# EAGLE library part PCA9634 (library LED)
NXP PCA9634 8-bit LED Controller
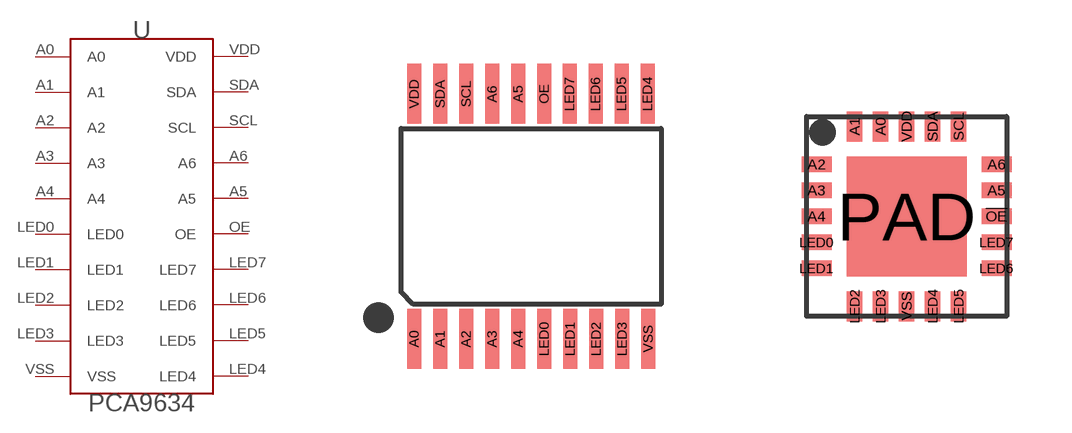
[diagram p3: symbol with the pads of PCA9634PW-TSSOP20; footprints PCA9634PW-TSSOP20, PCA9634PW-HVQFN20]

Designator prefix -

## PCA9634-TSSOP20  [PCA9634PW-TSSOP20]
A0  A0
A1  A1
A2  A2
A3  A3
A4  A4
A5  A5
A6  A6
LED0  LED0
LED1  LED1
LED2  LED2
LED3  LED3
LED4  LED4
LED5  LED5
LED6  LED6
LED7  LED7
OE  OE
SCL  SCL
SDA  SDA
VDD  VDD
VSS  VSS

## PCA9634-HVQFN20  [PCA9634PW-HVQFN20]
!OE  OE
A0  A0
A1  A1
A2  A2
A3  A3
A4  A4
A5  A5
A6  A6
LED0  LED0
LED1  LED1
LED2  LED2
LED3  LED3
LED4  LED4
LED5  LED5
LED6  LED6
LED7  LED7
PAD  VSS
SCL  SCL
SDA  SDA
VDD  VDD
VSS  VSS

## Footprint PCA9634PW-TSSOP20 (pad centres in mm)
NXP PCA9634PW 8-bit i2C-bus LED Controller
smd 0.35 x 1.5: A0 -2.925,-3.065; A1 -2.275,-3.065; A2 -1.625,-3.065; A3 -0.975,-3.065; A4 -0.325,-3.065; A5 -0.325,3.065; A6 -0.975,3.065; LED0 0.325,-3.065; LED1 0.975,-3.065; LED2 1.625,-3.065; LED3 2.275,-3.065; LED4 2.91,3.065; LED5 2.26,3.065; LED6 1.61,3.065; LED7 0.96,3.065; OE 0.325,3.065; SCL -1.625,3.065; SDA -2.275,3.065; VDD -2.925,3.065; VSS 2.925,-3.065

## Footprint PCA9634PW-HVQFN20 (pad centres in mm)
smd 0.75 x 0.38: !OE 2.25,0; A2 -2.25,1.3; A3 -2.25,0.65; A4 -2.25,0; A5 2.25,0.65; A6 2.25,1.3; LED0 -2.25,-0.65; LED1 -2.25,-1.3; LED6 2.25,-1.3; LED7 2.25,-0.65
smd 0.38 x 0.75: A0 -0.65,2.25; A1 -1.3,2.25; LED2 -1.3,-2.25; LED3 -0.65,-2.25; LED4 0.65,-2.25; LED5 1.3,-2.25; SCL 1.3,2.25; SDA 0.65,2.25; VDD 0,2.25; VSS 0,-2.25
smd 3 x 3: PAD 0,0